# Altium footprint library TO.PcbLib: 3 footprints
Each footprint in its own frame and in the unit in brackets; x right, y up, seen from the top. Pads: shape width x height; smd on the part's side, far side on the other; paste and mask are expansions set on the pad; w line width, h text height; cw(c..) or ccw(c..) is an arc to the next point about the centre after c.
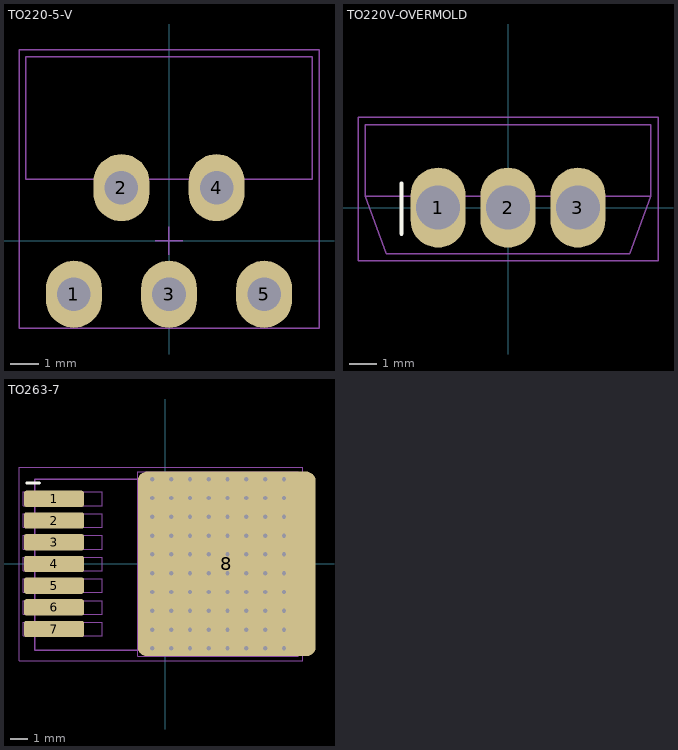
[diagram p0: the footprints below, top view; thin cyan lines are the x and y axes]

## TO220-5-V [mm] "TO220,PENTAWATT,VERTICAL"
pads (5):
  oval 2x2.4 hole 1.2: 1(-3.4,-1.905) 2(-1.7,1.905) 3(0,-1.905) 4(1.7,1.905) 5(3.4,-1.905)
Top Courtyard:
  lines w0.05: -0.5,0 0,0 ; 0,-0.5 0,0 ; 0,0.5 0,0 ; 0.5,0 0,0 ; -5.362,-3.117 5.362,-3.117 5.362,6.829 -5.362,6.829 -5.362,-3.117
Top Assembly:
  lines w0.05: -5.112,2.197 5.112,2.197 5.112,6.579 -5.112,6.579 -5.112,2.197
3D body "step_temp.STEP": height 21.54, standoff -8.13, extent -5.115,-2.134 5.108,6.579

## TO220V-OVERMOLD [mm]
pads (3):
  oval 2x2.9 hole 1.6 unplated mask+0.05: 1(-2.54,0) 2(0,0) 3(2.54,0)
Top Overlay:
  lines w0.15: -3.875,-0.95 -3.875,0.875
Top Courtyard:
  lines w0.05: -0.5,0 0,0 ; 0,-0.5 0,0 ; 0,0.5 0,0 ; 0.5,0 0,0 ; -5.45,-1.925 5.45,-1.925 5.45,3.275 -5.45,3.275 -5.45,-1.925
Top Assembly:
  lines w0.05: -5.193,0.412 -0.043,0.412 5.193,0.412 ; -5.193,0.412 -5.193,3.016 0,3.016 5.193,3.016 5.193,0.412 ; -5.193,0.412 -4.43,-1.683 0,-1.683 4.43,-1.683 5.193,0.412
3D body "TO220OVERMOLD.step": height 24.06, standoff -5.81, extent -5.193,-1.683 5.107,3.016

## TO263-7 [mm] "TO263-7"
height 4.783
pads (8):
  rrect25% 3.5x0.95 smd mask+0.05: 1(-6.5,3.801) 2(-6.5,2.531) 3(-6.5,1.261) 4(-6.5,-0.009) 5(-6.5,-1.279) 6(-6.5,-2.549) 7(-6.5,-3.819)
  rrect10% 10.4x10.8 smd paste-10.8 mask+0.075: 8(3.6,-0.009)
via 3.65,-4.95 diameter 0.6 hole 0.254
via 2.55,-4.95 diameter 0.6 hole 0.254
via 4.75,-4.95 diameter 0.6 hole 0.254
via 5.85,-4.95 diameter 0.6 hole 0.254
via 6.95,-4.95 diameter 0.6 hole 0.254
via 1.45,-4.95 diameter 0.6 hole 0.254
via 0.35,-4.95 diameter 0.6 hole 0.254
via -0.75,-4.95 diameter 0.6 hole 0.254
via 3.65,-3.85 diameter 0.6 hole 0.254
via 2.55,-3.85 diameter 0.6 hole 0.254
via 4.75,-3.85 diameter 0.6 hole 0.254
via 5.85,-3.85 diameter 0.6 hole 0.254
via 6.95,-3.85 diameter 0.6 hole 0.254
via 1.45,-3.85 diameter 0.6 hole 0.254
via 0.35,-3.85 diameter 0.6 hole 0.254
via -0.75,-3.85 diameter 0.6 hole 0.254
via 3.65,-2.75 diameter 0.6 hole 0.254
via 2.55,-2.75 diameter 0.6 hole 0.254
via 4.75,-2.75 diameter 0.6 hole 0.254
via 5.85,-2.75 diameter 0.6 hole 0.254
via 6.95,-2.75 diameter 0.6 hole 0.254
via 1.45,-2.75 diameter 0.6 hole 0.254
via 0.35,-2.75 diameter 0.6 hole 0.254
via -0.75,-2.75 diameter 0.6 hole 0.254
via 3.65,-1.65 diameter 0.6 hole 0.254
via 2.55,-1.65 diameter 0.6 hole 0.254
via 4.75,-1.65 diameter 0.6 hole 0.254
via 5.85,-1.65 diameter 0.6 hole 0.254
via 6.95,-1.65 diameter 0.6 hole 0.254
via 1.45,-1.65 diameter 0.6 hole 0.254
via 0.35,-1.65 diameter 0.6 hole 0.254
via -0.75,-1.65 diameter 0.6 hole 0.254
via 3.65,4.95 diameter 0.6 hole 0.254
via 2.55,4.95 diameter 0.6 hole 0.254
via 4.75,4.95 diameter 0.6 hole 0.254
via 5.85,4.95 diameter 0.6 hole 0.254
via 6.95,4.95 diameter 0.6 hole 0.254
via 1.45,4.95 diameter 0.6 hole 0.254
via 0.35,4.95 diameter 0.6 hole 0.254
via -0.75,4.95 diameter 0.6 hole 0.254
via 3.65,3.85 diameter 0.6 hole 0.254
via 2.55,3.85 diameter 0.6 hole 0.254
via 4.75,3.85 diameter 0.6 hole 0.254
via 5.85,3.85 diameter 0.6 hole 0.254
via 6.95,3.85 diameter 0.6 hole 0.254
via 1.45,3.85 diameter 0.6 hole 0.254
via 0.35,3.85 diameter 0.6 hole 0.254
via -0.75,3.85 diameter 0.6 hole 0.254
via 3.65,2.75 diameter 0.6 hole 0.254
via 2.55,2.75 diameter 0.6 hole 0.254
via 4.75,2.75 diameter 0.6 hole 0.254
via 5.85,2.75 diameter 0.6 hole 0.254
via 6.95,2.75 diameter 0.6 hole 0.254
via 1.45,2.75 diameter 0.6 hole 0.254
via 0.35,2.75 diameter 0.6 hole 0.254
via -0.75,2.75 diameter 0.6 hole 0.254
via 3.65,1.65 diameter 0.6 hole 0.254
via 2.55,1.65 diameter 0.6 hole 0.254
via 4.75,1.65 diameter 0.6 hole 0.254
via 5.85,1.65 diameter 0.6 hole 0.254
via 6.95,1.65 diameter 0.6 hole 0.254
via 1.45,1.65 diameter 0.6 hole 0.254
via 0.35,1.65 diameter 0.6 hole 0.254
via -0.75,1.65 diameter 0.6 hole 0.254
via -0.75,0.55 diameter 0.6 hole 0.254
via -0.75,-0.55 diameter 0.6 hole 0.254
via 0.35,0.55 diameter 0.6 hole 0.254
via 0.35,-0.55 diameter 0.6 hole 0.254
via 1.45,0.55 diameter 0.6 hole 0.254
via 1.45,-0.55 diameter 0.6 hole 0.254
via 6.95,-0.55 diameter 0.6 hole 0.254
via 6.95,0.55 diameter 0.6 hole 0.254
via 5.85,-0.55 diameter 0.6 hole 0.254
via 5.85,0.55 diameter 0.6 hole 0.254
via 4.75,-0.55 diameter 0.6 hole 0.254
via 4.75,0.55 diameter 0.6 hole 0.254
via 2.55,0.55 diameter 0.6 hole 0.254
via 3.65,0.55 diameter 0.6 hole 0.254
via 2.55,-0.55 diameter 0.6 hole 0.254
via 3.65,-0.55 diameter 0.6 hole 0.254
Top Overlay:
  lines w0.152: -8.1,4.725 -7.35,4.725
Top Paste:
  region: 3.5,-4 2.7,-4 2.7,-4.8 3.5,-4.8
  region: 4.6,-4 3.8,-4 3.8,-4.8 4.6,-4.8
  region: 5.7,-4 4.9,-4 4.9,-4.8 5.7,-4.8
  region: 6.8,-4 6,-4 6,-4.8 6.8,-4.8
  rectangle: 1.6,-4.8 2.4,-4
  rectangle: 0.5,-4.8 1.3,-4
  rectangle: -0.6,-4.8 0.2,-4
  region: 7.8,-4 7.1,-4 7.1,-4.8 7.8,-4.8
  rectangle: -1.6,-4.8 -0.9,-4
  region: 3.5,-2.9 2.7,-2.9 2.7,-3.7 3.5,-3.7
  region: 4.6,-2.9 3.8,-2.9 3.8,-3.7 4.6,-3.7
  region: 5.7,-2.9 4.9,-2.9 4.9,-3.7 5.7,-3.7
  region: 6.8,-2.9 6,-2.9 6,-3.7 6.8,-3.7
  rectangle: 1.6,-3.7 2.4,-2.9
  rectangle: 0.5,-3.7 1.3,-2.9
  rectangle: -0.6,-3.7 0.2,-2.9
  region: 7.8,-2.9 7.1,-2.9 7.1,-3.7 7.8,-3.7
  rectangle: -1.6,-3.7 -0.9,-2.9
  region: 3.5,-1.8 2.7,-1.8 2.7,-2.6 3.5,-2.6
  region: 4.6,-1.8 3.8,-1.8 3.8,-2.6 4.6,-2.6
  region: 5.7,-1.8 4.9,-1.8 4.9,-2.6 5.7,-2.6
  region: 6.8,-1.8 6,-1.8 6,-2.6 6.8,-2.6
  rectangle: 1.6,-2.6 2.4,-1.8
  rectangle: 0.5,-2.6 1.3,-1.8
  rectangle: -0.6,-2.6 0.2,-1.8
  region: 7.8,-1.8 7.1,-1.8 7.1,-2.6 7.8,-2.6
  rectangle: -1.6,-2.6 -0.9,-1.8
  region: 3.5,-0.7 2.7,-0.7 2.7,-1.5 3.5,-1.5
  region: 4.6,-0.7 3.8,-0.7 3.8,-1.5 4.6,-1.5
  region: 5.7,-0.7 4.9,-0.7 4.9,-1.5 5.7,-1.5
  region: 6.8,-0.7 6,-0.7 6,-1.5 6.8,-1.5
  rectangle: 1.6,-1.5 2.4,-0.7
  rectangle: 0.5,-1.5 1.3,-0.7
  rectangle: -0.6,-1.5 0.2,-0.7
  region: 7.8,-0.7 7.1,-0.7 7.1,-1.5 7.8,-1.5
  rectangle: -1.6,-1.5 -0.9,-0.7
  region: 3.5,4.8 2.7,4.8 2.7,4 3.5,4
  region: 4.6,4.8 3.8,4.8 3.8,4 4.6,4
  region: 5.7,4.8 4.9,4.8 4.9,4 5.7,4
  region: 6.8,4.8 6,4.8 6,4 6.8,4
  rectangle: 1.6,4 2.4,4.8
  rectangle: 0.5,4 1.3,4.8
  rectangle: -0.6,4 0.2,4.8
  region: 7.8,4.8 7.1,4.8 7.1,4 7.8,4
  rectangle: -1.6,4 -0.9,4.8
  region: 3.5,3.7 2.7,3.7 2.7,2.9 3.5,2.9
  region: 4.6,3.7 3.8,3.7 3.8,2.9 4.6,2.9
  region: 5.7,3.7 4.9,3.7 4.9,2.9 5.7,2.9
  region: 6.8,3.7 6,3.7 6,2.9 6.8,2.9
  rectangle: 1.6,2.9 2.4,3.7
  rectangle: 0.5,2.9 1.3,3.7
  rectangle: -0.6,2.9 0.2,3.7
  region: 7.8,3.7 7.1,3.7 7.1,2.9 7.8,2.9
  rectangle: -1.6,2.9 -0.9,3.7
  region: 3.5,2.6 2.7,2.6 2.7,1.8 3.5,1.8
  region: 4.6,2.6 3.8,2.6 3.8,1.8 4.6,1.8
  region: 5.7,2.6 4.9,2.6 4.9,1.8 5.7,1.8
  region: 6.8,2.6 6,2.6 6,1.8 6.8,1.8
  rectangle: 1.6,1.8 2.4,2.6
  rectangle: 0.5,1.8 1.3,2.6
  rectangle: -0.6,1.8 0.2,2.6
  region: 7.8,2.6 7.1,2.6 7.1,1.8 7.8,1.8
  rectangle: -1.6,1.8 -0.9,2.6
  region: 3.5,1.5 2.7,1.5 2.7,0.7 3.5,0.7
  region: 4.6,1.5 3.8,1.5 3.8,0.7 4.6,0.7
  region: 5.7,1.5 4.9,1.5 4.9,0.7 5.7,0.7
  region: 6.8,1.5 6,1.5 6,0.7 6.8,0.7
  rectangle: 1.6,0.7 2.4,1.5
  rectangle: 0.5,0.7 1.3,1.5
  rectangle: -0.6,0.7 0.2,1.5
  region: 7.8,1.5 7.1,1.5 7.1,0.7 7.8,0.7
  rectangle: -1.6,0.7 -0.9,1.5
  rectangle: -1.6,-0.4 -0.9,0.4
  region: 7.8,0.4 7.1,0.4 7.1,-0.4 7.8,-0.4
  rectangle: -0.6,-0.4 0.2,0.4
  rectangle: 0.5,-0.4 1.3,0.4
  rectangle: 1.6,-0.4 2.4,0.4
  region: 6.8,0.4 6,0.4 6,-0.4 6.8,-0.4
  region: 5.7,0.4 4.9,0.4 4.9,-0.4 5.7,-0.4
  region: 4.6,0.4 3.8,0.4 3.8,-0.4 4.6,-0.4
  region: 3.5,0.4 2.7,0.4 2.7,-0.4 3.5,-0.4
Top Assembly:
  lines w0.05: -8.291,-4.219 -3.691,-4.219 -3.691,-3.419 -8.291,-3.419 -8.291,-4.219 ; -8.291,-2.949 -3.691,-2.949 -3.691,-2.149 -8.291,-2.149 -8.291,-2.949 ; -8.291,-1.679 -8.291,-0.879 -3.691,-0.879 -3.691,-1.679 -8.291,-1.679 ; -8.291,-0.409 -3.691,-0.409 -3.691,0.391 -8.291,0.391 -8.291,-0.409 ; -8.291,0.861 -8.291,1.661 -3.691,1.661 -3.691,0.861 -8.291,0.861 ; -8.291,2.131 -3.691,2.131 -3.691,2.931 -8.291,2.931 -8.291,2.131 ; -8.291,3.401 -8.291,4.201 -3.691,4.201 -3.691,3.401 -8.291,3.401 ; -1.6,-5.409 7.8,-5.409 7.8,5.391 -1.6,5.391 -1.6,-5.409
  lines w0.1: -7.635,-5.05 -7.635,4.95 7.53,4.95 7.53,-5.05 -7.635,-5.05
  text "1" at -8.291,3.401 h0.3
Mechanical 15:
  lines w0.05: -0.5,0 0,0 ; 0,-0.5 0,0 ; 0,0.5 0,0 ; 0.5,0 0,0 ; -8.55,-5.675 8.05,-5.675 8.05,5.65 -8.55,5.65 -8.55,-5.675
3D body "TO263-7N-A_PIN4_REMOVED.STEP": height 4.78, standoff -0.02, extent -7.635,-5.05 8.035,4.95